# EAGLE library part LMZ21701 (library RitLaunchInitiative)
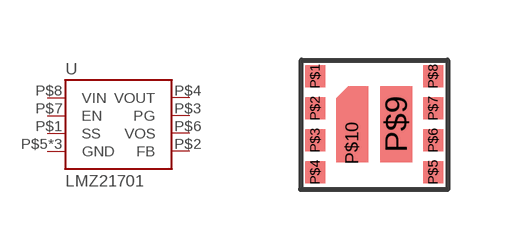
[diagram p10: symbol with the pads of LMZ21701; footprint LMZ21701]

Designator prefix U

## LMZ21701  [LMZ21701]
P$1  SS
P$2  FB
P$3  PG
P$4  VOUT
P$5  GND
P$6  VOS
P$7  EN
P$8  VIN
P$9  GND
P$10  GND

## Footprint LMZ21701 (pad centres in mm)
smd 0.5 x 0.55: P$1 -1.475,1.2; P$2 -1.475,0.4; P$3 -1.475,-0.4; P$4 -1.475,-1.2; P$5 1.475,-1.2; P$6 1.475,-0.4; P$7 1.475,0.4; P$8 1.475,1.2
smd 0.8 x 1.9: P$9 0.55,0
smd 0.8 x 0.95: P$10 -0.55,-0.475